# Altium footprint library ADolya_FpLib.PcbLib: 21 footprints (part 1 of 2)
Each footprint in its own frame and in the unit in brackets; x right, y up, seen from the top. Pads: shape width x height; smd on the part's side, far side on the other; paste and mask are expansions set on the pad; w line width, h text height; cw(c..) or ccw(c..) is an arc to the next point about the centre after c.
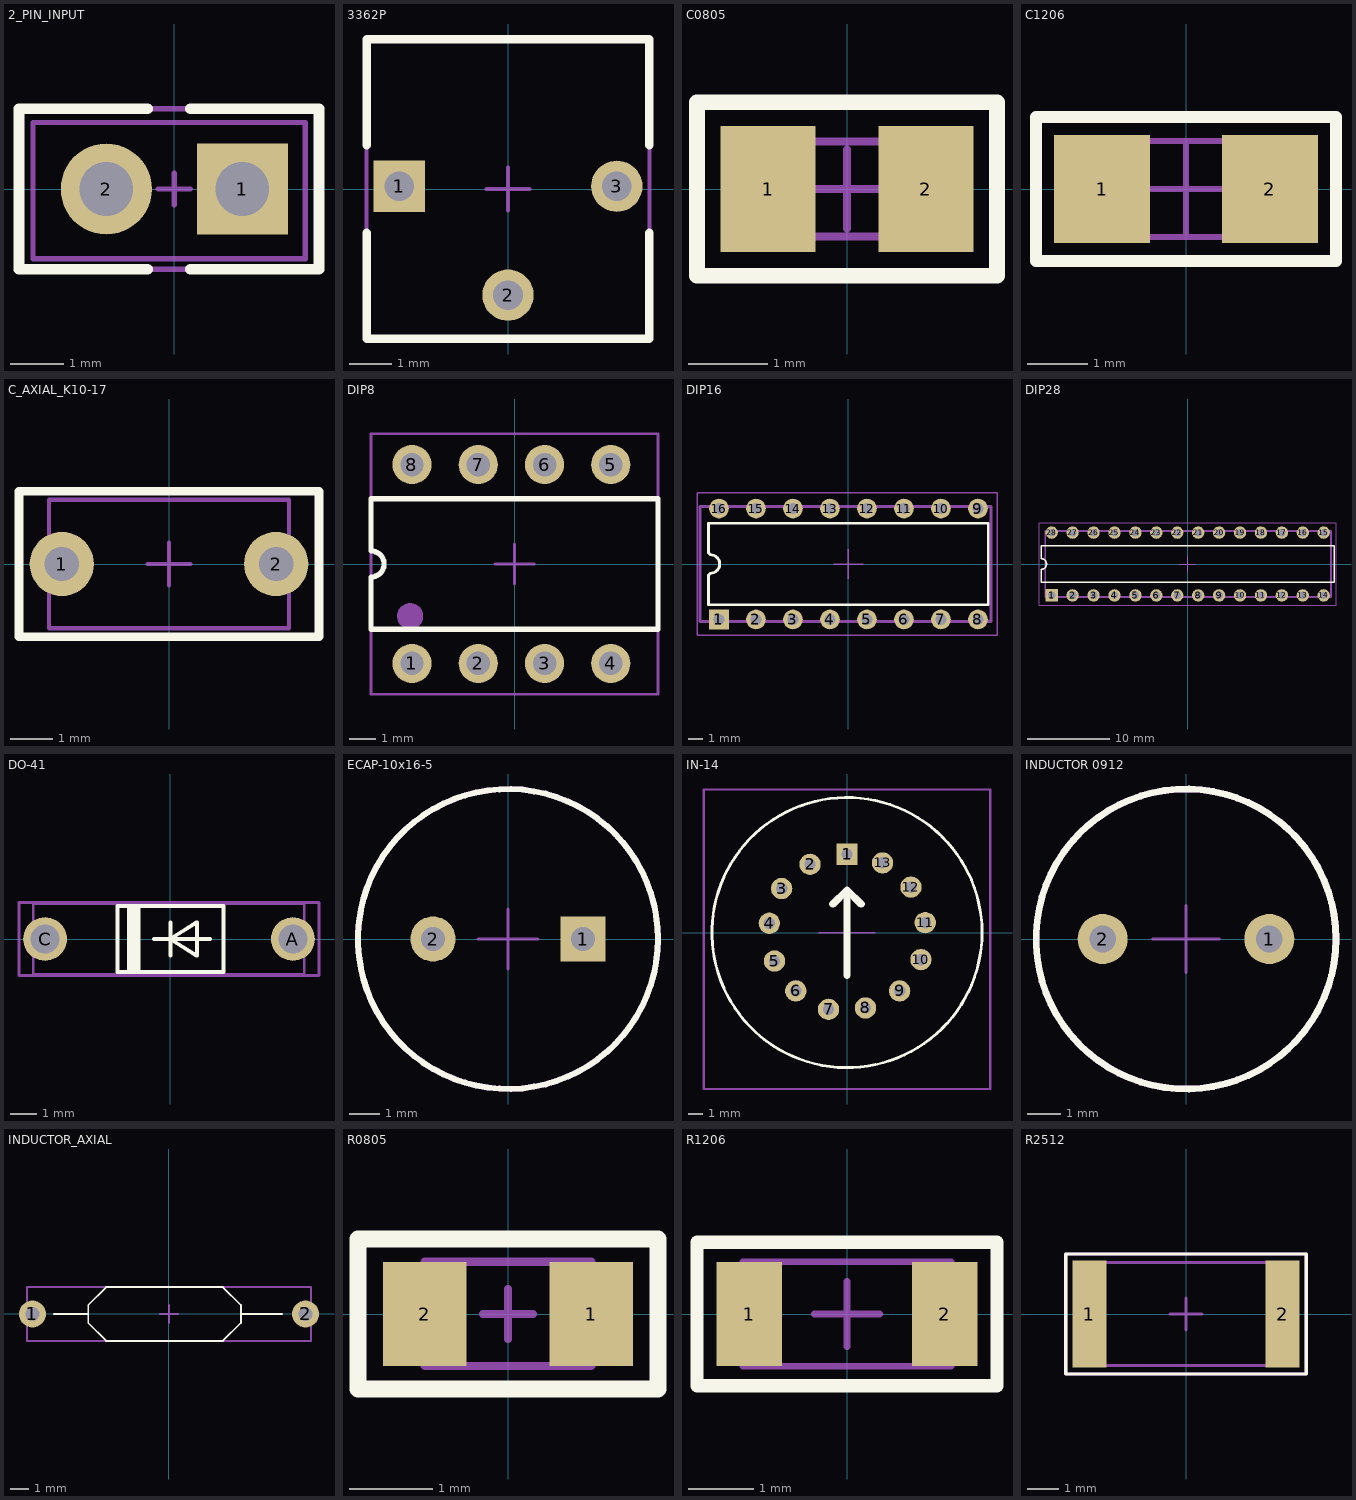
[diagram p0: the footprints below, top view; thin cyan lines are the x and y axes]

## 2_PIN_INPUT [mm]
pads (2):
  rect 1.7x1.7 hole 1: 1(1.27,0)
  round 1.7 hole 1: 2(-1.27,0)
Top Overlay:
  lines w0.2: -0.5,-1.5 -2.9,-1.5 -2.9,1.5 -0.5,1.5 ; 0.3,-1.5 2.7,-1.5 2.7,1.5 0.3,1.5
TopAssy:
  lines w0.1: -2.64,-1.3 2.44,-1.3 2.44,1.24 -2.64,1.24 -2.64,-1.3
Border:
  lines w0.1: -0.3,0 0.3,0 ; 0,-0.3 0,0.3 ; -2.9,-1.5 2.7,-1.5 2.7,1.5 -2.9,1.5 -2.9,-1.5
3D body "User Library-Header Vertical 2_54mm Pitch2-1.STEP": height 6.44, standoff -2.44, extent -2.64,-1.3 2.44,1.24

## 3362P [mm]
pads (3):
  rect 1.198x1.198 hole 0.69: 1(-2.54,0.065)
  round 1.198 hole 0.69: 2(0,-2.475) 3(2.54,0.065)
Top Overlay:
  lines w0.2: -3.3,-1.02 -3.3,-3.495 3.3,-3.495 3.3,-1.02 ; -3.3,1.02 -3.3,3.495 3.3,3.495 3.3,1.02
TopAssy:
  lines w0.1: -3.3,-3.5 -3.3,3.5 3.3,3.5 3.3,-3.5 -3.3,-3.5
Border:
  lines w0.1: -0.5,0 0.5,0 ; 0,-0.5 0,0.5 ; -3.3,-3.5 -3.3,3.5 3.3,3.5 3.3,-3.5 -3.3,-3.5
3D body "User Library-3362P-2.STEP": height 5.34, standoff -4.82, extent -3.353,-3.5 3.353,3.536

## C0805 [mm] "2012M"
height 1
pads (2):
  rect 1.2x1.6 smd: 1(-1,0) 2(1,0)
Top Overlay:
  lines w0.2: -1.9,-1.1 -1.9,1.1 1.9,1.1 1.9,-1.1 -1.9,-1.1
3D Model:
  lines w0.1: -1,-0.6 1,-0.6 1,0.6 -1,0.6 -1,-0.6
Border:
  lines w0.1: -0.5,0 0.5,0 ; 0,-0.5 0,0.5 ; -1.9,-1.1 1.9,-1.1 1.9,1.1 -1.9,1.1 -1.9,-1.1
3D body "User Library-CAPC2013X10.step": height 1.01, standoff 0.01, extent -1,-0.625 1,0.625

## C1206 [mm] "3216M"
height 1.6
pads (2):
  rect 1.6x1.8 smd: 1(-1.4,0) 2(1.4,0)
Top Overlay:
  lines w0.2: -2.5,-1.2 -2.5,1.2 2.5,1.2 2.5,-1.2 -2.5,-1.2
TopAssy:
  lines w0.1: -1.6,-0.8 -1.6,0.8 1.6,0.8 1.6,-0.8 -1.6,-0.8
Border:
  lines w0.1: -0.75,0 0.75,0 ; 0,-0.75 0,0.75 ; -2.5,-1.2 2.5,-1.2 2.5,1.2 -2.5,1.2 -2.5,-1.2
3D body "User Library-CAPC3216X10.step": height 1.01, standoff 0.01, extent -1.6,-0.8 1.6,0.8

## C_AXIAL_K10-17 [mm]
pads (2):
  round 1.5 hole 0.8: 1(-2.5,0) 2(2.5,0)
Top Overlay:
  lines w0.2: -3.5,-1.7 -3.5,1.7 3.5,1.7 3.5,-1.7 -3.5,-1.7
TopAssy:
  lines w0.1: -2.8,-1.5 -2.8,1.502 2.802,1.502 2.802,-1.5 -2.8,-1.5
Border:
  lines w0.1: -0.5,0 0.5,0 ; 0,-0.5 0,0.5 ; -3.5,-1.7 3.5,-1.7 3.5,1.7 -3.5,1.7 -3.5,-1.7
3D body "User Library-K10-17-1B-H90-0_1uF.STEP": height 7, standoff -2.5, extent -2.8,-1.5 2.802,1.502

## DIP8 [mm]
pads (8):
  round 1.5 hole 0.9: 1(-3.93,-3.81) 2(-1.39,-3.81) 3(1.15,-3.81) 4(3.69,-3.81) 5(3.69,3.81) 6(1.15,3.81) 7(-1.39,3.81) 8(-3.93,3.81)
Top Overlay:
  lines w0.2: -5.5,-2.5 -5.5,-0.5 ccw(c-5.5,0) -5.5,0.5 -5.5,2.5 5.5,2.5 5.5,-2.5 -5.5,-2.5
TopAssy:
  circle w0.5: c-4,-2 r0.25
  lines w0.1: -5.5,-5 5.5,-5 5.5,5 -5.5,5 -5.5,-5
Border:
  lines w0.1: -0.75,0 0.75,0 ; 0,-0.75 0,0.75 ; -5.5,-5 -5.5,5 5.5,5 5.5,-5 -5.5,-5
3D body "CircuitWorks-DIP8.step": height 4.19, standoff -2.67, extent -5.83,-3.937 5.6,3.937

## DIP16 [mm]
pads (16):
  rect 1.35x1.35 hole 0.75: 1(-8.89,-3.81)
  round 1.35 hole 0.75: 2(-6.35,-3.81) 3(-3.81,-3.81) 4(-1.27,-3.81) 5(1.27,-3.81) 6(3.81,-3.81) 7(6.35,-3.81) 8(8.89,-3.81) 9(8.89,3.81) 10(6.35,3.81) 11(3.81,3.81) 12(1.27,3.81) 13(-1.27,3.81) 14(-3.81,3.81) 15(-6.35,3.81) 16(-8.89,3.81)
Top Overlay:
  lines w0.2: -9.6,-2.8 -9.6,-0.755 -9.48,-0.635 ccw(c-9.48,0) -9.48,0.635 -9.6,0.755 -9.6,2.8 9.6,2.8 9.6,-2.8 -9.6,-2.8
TopAssy:
  lines w0.2: -10.2,-3.935 9.8,-3.935 9.8,3.935 -10.2,3.935 -10.2,-3.935
Border:
  lines w0.1: -1,0 1,0 ; 0,-1 0,1 ; -10.4,-4.9 10.2,-4.9 10.2,4.9 -10.4,4.9 -10.4,-2.8 -10.4,-4.9
3D body "CircuitWorks-DIP 16 IC.STEP": height 6.1, standoff -2.3, extent -10.2,-3.935 9.8,3.935

## DIP28 [mm]
pads (28):
  rect 1.5x1.5 hole 0.9: 1(-16.51,-3.81)
  round 1.5 hole 0.9: 2(-13.97,-3.81) 3(-11.43,-3.81) 4(-8.89,-3.81) 5(-6.35,-3.81) 6(-3.81,-3.81) 7(-1.27,-3.81) 8(1.27,-3.81) 9(3.81,-3.81) 10(6.35,-3.81) 11(8.89,-3.81) 12(11.43,-3.81) 13(13.97,-3.81) 14(16.51,-3.81) 15(16.51,3.81) 16(13.97,3.81) 17(11.43,3.81) 18(8.89,3.81) 19(6.35,3.81) 20(3.81,3.81) 21(1.27,3.81) 22(-1.27,3.81) 23(-3.81,3.81) 24(-6.35,3.81) 25(-8.89,3.81) 26(-11.43,3.81) 27(-13.97,3.81) 28(-16.51,3.81)
Top Overlay:
  lines w0.2: -17.78,-2.225 -17.78,-0.635 ccw(c-17.78,0) -17.78,0.635 -17.78,2.225 17.78,2.225 17.78,-2.225 -17.78,-2.225
TopAssy:
  lines w0.2: -17.3,-4 17,-4 17.4,-4 17.4,4 8.625,4 -8.125,4 -17.3,4 -17.3,-4
Border:
  lines w0.1: -1,0 1,0 ; 0,-1 0,1 ; -18,-5 -18,5 18,5 18,-5 -18,-5
3D body "User Library-User Library-ATmega 48_88_168_328 28P3_90DEG.STEP": height 5.04, standoff -2.08, extent -17.325,-3.953 17.325,3.953

## DO-41 [mil]
pads (2):
  round 66 hole 44: A(185.03,-0.01) C(-188.98,0)
Top Overlay:
  region: -65.1,50 -45,50 -45,-50.08 -65.1,-50.08
  lines w6: -25,0 0,0 ; 0,-25 0,0 ; 0,25 0,0 ; 60,0 0,0 ; 0,0 40,25 40,-25 0,0 ; -80,-50 -80,50 80,50 80,-50 -80,-50
TopAssy:
  lines w3.94: -206.9,-52.95 -206.9,53.35 201.96,53.35 201.96,-52.95 -206.9,-52.95
Border:
  lines w3.94: -23.62,0 23.62,0 ; 0,-23.62 0,23.62 ; -228.35,-55.12 -228.35,55.12 224.41,55.12 224.41,-55.12 -228.35,-55.12
3D body "User Library-DO-41_375mil.STEP": height 111.34, standoff -99.37, extent -206.9,-52.95 201.96,53.35

## ECAP-10x16-5 [mm]
pads (2):
  rect 1.5x1.5 hole 0.8: 1(2.5,0)
  round 1.5 hole 0.8: 2(-2.5,0)
Top Overlay:
  circle w0.2: c0,0 r5
TopAssy:
  circle w0.2: c0,0 r5
Border:
  circle w0.2: c0,0 r5
  lines w0.1: -1,0 1,0 ; 0,-1 0,1
3D body "User Library-Cap-EL(10x16-5)T.STEP": height 17.5, standoff -1.5, extent -5,-4.997 5.002,4.998

## IN-14 [mm]
pads (13):
  rect 1.5x1.5 hole 0.8: 1(0,5.5)
  round 1.5 hole 0.8: 2(-2.6,4.8) 3(-4.6,3.1) 4(-5.461,0.656) 5(-5.1,-2) 6(-3.6,-4.1) 7(-1.3,-5.4) 8(1.3,-5.3) 9(3.7,-4.1) 10(5.2,-1.9) 11(5.5,0.7) 12(4.5,3.2) 13(2.5,4.9)
Top Overlay:
  circle w0.2: c0,0 r9.5
  lines w0.5: 0,-3 0,3 ; 1,2 0,3 ; 0,3 0,3 ; 0,3 -1,2 0,3 ; 0,3 0,3
TopAssy:
  lines w0.1: -10.043,-11 -10.043,10.05 10.043,10.05 10.043,-11 -10.043,-11
Border:
  lines w0.1: -2,0 0,0 ; 0,2 0,0 ; 2,0 0,0 ; 0,0 0,-2 0,0 ; -10.1,-11 10.1,-11 10.1,10.1 -10.1,10.1 -10.1,-11
3D body "IN-14.stp": height 61.33, standoff -9, extent -10.042,-11 10.043,10.05

## INDUCTOR 0912 [mm]
pads (2):
  round 1.5 hole 0.8: 1(2.5,0) 2(-2.5,0)
Top Overlay:
  circle w0.2: c0,0 r4.5
TopAssy:
  circle w0.2: c0,0 r4.5
Border:
  circle w0.2: c0,0 r4.5
  lines w0.1: -1,0 1,0 ; 0,-1 0,1
3D body "User Library-RLB 0912.STEP": height 11, standoff -4, extent -4.35,-4.35 4.35,4.35

## INDUCTOR_AXIAL [mm]
pads (2):
  round 1.5 hole 0.8: 1(-7.6,0) 2(7.6,0)
Top Overlay:
  lines w0.1: -6.4,0 -4.5,0 -4.5,-0.5 ; 4,0 6.3,0 ; -4.5,-0.5 -4.5,0.5 -3.5,1.5 3,1.5 4,0.5 4,-0.5 3,-1.5 -3.5,-1.5 -4.5,-0.5
TopAssy:
  lines w0.1: -7.9,-1.5 7.9,-1.5 7.9,1.5 -7.9,1.5 -7.9,-1.5
Border:
  lines w0.1: -0.5,0 0.5,0 ; 0,-0.5 0,0.5 ; -7.9,-1.5 -7.9,1.5 7.9,1.5 7.9,-1.5 -7.9,-1.5
3D body "User Library-EC24.STEP": height 3, standoff -2, extent -7.87,-1.5 7.87,1.5

## R0805 [mm]
pads (2):
  rect 1x1.25 smd: 1(1,0) 2(-1,0)
Top Overlay:
  lines w0.2: -1.8,-0.9 1.8,-0.9 1.8,0.9 -1.8,0.9 -1.8,-0.9
TopAssy:
  lines w0.1: -1,-0.625 1,-0.625 1,0.625 -1,0.625 -1,-0.625
Border:
  lines w0.1: -0.3,0 0.3,0 ; 0,-0.3 0,0.3 ; -1.8,-0.9 1.8,-0.9 1.8,0.9 -1.8,0.9 -1.8,-0.9
3D body "0805 SMD.STEP": height 0.78, standoff 0, extent -1,-0.625 1,0.625

## R1206 [mm]
pads (2):
  rect 1x1.6 smd: 1(-1.5,0) 2(1.5,0)
Top Overlay:
  lines w0.2: -2.3,-1.1 -2.3,1.1 2.3,1.1 2.3,-1.1 -2.3,-1.1
TopAssy:
  lines w0.1: -1.6,-0.8 1.6,-0.8 1.6,0.8 -1.6,0.8 -1.6,-0.8
Border:
  lines w0.1: -0.5,0 0.5,0 ; 0,-0.5 0,0.5 ; -2.3,-1.1 2.3,-1.1 2.3,1.1 -2.3,1.1 -2.3,-1.1
3D body "1206 SMD.STEP": height 1, standoff 0, extent -1.6,-0.8 1.6,0.8

## R2512 [mm]
pads (2):
  rect 1.07x3.37 smd: 1(-3.055,0) 2(3.055,0)
Top Overlay:
  lines w0.1: -3.8,-1.9 -3.8,1.9 3.8,1.9 3.8,-1.9 -3.8,-1.9
TopAssy:
  lines w0.1: -3.175,-1.63 -3.175,1.63 3.175,1.63 3.175,-1.63 -3.175,-1.63
Border:
  lines w0.1: -0.5,0 0.5,0 ; 0,-0.5 0,0.5 ; -3.8,-1.9 -3.8,1.9 3.8,1.9 3.8,-1.9 -3.8,-1.9
3D body "CircuitWorks-RESISTOR 2512.STEP": height 0.58, standoff -0.03, extent -3.175,-1.63 3.175,1.63